# Altium footprint library UFQFPN28(4.0X4.0).PcbLib: 1 footprints
Each footprint in its own frame and in the unit in brackets; x right, y up, seen from the top. Pads: shape width x height; smd on the part's side, far side on the other; paste and mask are expansions set on the pad; w line width, h text height; cw(c..) or ccw(c..) is an arc to the next point about the centre after c.
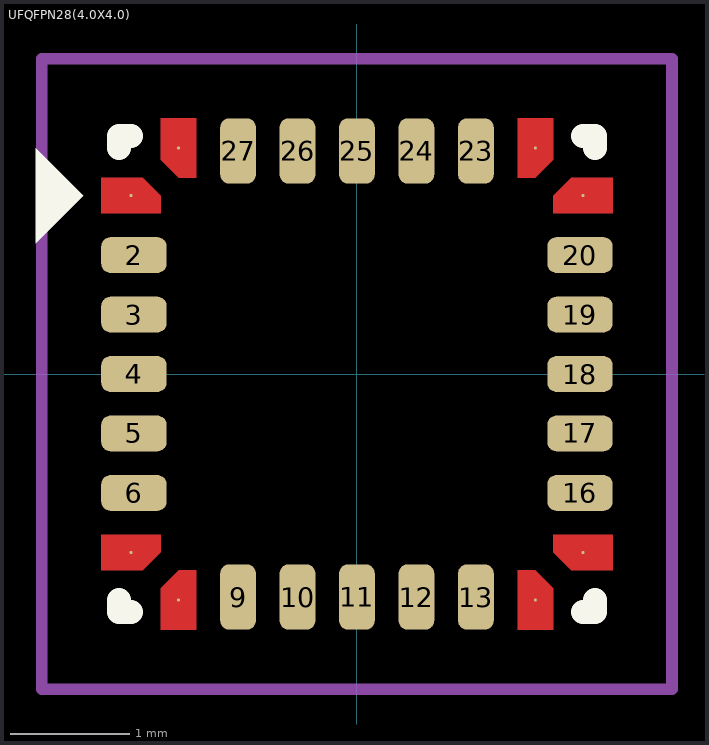
[diagram p0: the footprint, top view; thin cyan lines are the x and y axes]

## UFQFPN28(4.0X4.0) [mm]
height 0.6
pads (28):
  round 0.025 smd: 1(-1.9,1.5) 7(-1.9,-1.5) 8(-1.5,-1.9) 14(1.5,-1.9) 15(1.9,-1.5) 21(1.9,1.5) 22(1.5,1.9) 28(-1.5,1.9)
  rrect50% 0.55x0.3 smd: 2(-1.875,1) 3(-1.875,0.5) 4(-1.875,0) 5(-1.875,-0.5) 6(-1.875,-1) 16(1.875,-1) 17(1.875,-0.5) 18(1.875,0) 19(1.875,0.5) 20(1.875,1)
  rrect50% 0.3x0.55 smd: 9(-1,-1.875) 10(-0.5,-1.875) 11(0,-1.875) 12(0.5,-1.875) 13(1,-1.875) 23(1,1.875) 24(0.5,1.875) 25(0,1.875) 26(-0.5,1.875) 27(-1,1.875)
Top Layer:
  region: 1.35,-1.65 1.5,-1.65 1.65,-1.8 1.65,-2.15 1.35,-2.15
  region: 1.65,-1.35 1.65,-1.5 1.8,-1.65 2.15,-1.65 2.15,-1.35
  region: -1.65,-1.35 -1.65,-1.5 -1.8,-1.65 -2.15,-1.65 -2.15,-1.35
  region: -1.35,-1.65 -1.5,-1.65 -1.65,-1.8 -1.65,-2.15 -1.35,-2.15
  region: -1.35,1.65 -1.5,1.65 -1.65,1.8 -1.65,2.15 -1.35,2.15
  region: -1.65,1.35 -1.65,1.5 -1.8,1.65 -2.15,1.65 -2.15,1.35
  region: 1.65,1.35 1.65,1.5 1.8,1.65 2.15,1.65 2.15,1.35
  region: 1.35,1.65 1.5,1.65 1.65,1.8 1.65,2.15 1.35,2.15
Top Overlay:
  region: -2.7,1.1 -2.7,1.9 -2.3,1.5
  lines w0.2: -2,-1.9 -2,-2 -1.9,-2 ; -2,1.9 -2,2 -1.9,2 ; 1.9,-2 2,-2 2,-1.9 ; 1.9,2 2,2 2,1.9
Top Courtyard:
  lines w0.1: -2.65,-2.65 2.65,-2.65 2.65,2.65 -2.65,2.65 -2.65,-2.65
3D body "QFN127P600-8N.step": height 0.6, standoff 0, extent -2.001,-2.001 2.001,2.001